# Altium schematic symbol library DARKYDEN.SCHLIB: 154 symbols (part 3 of 7)
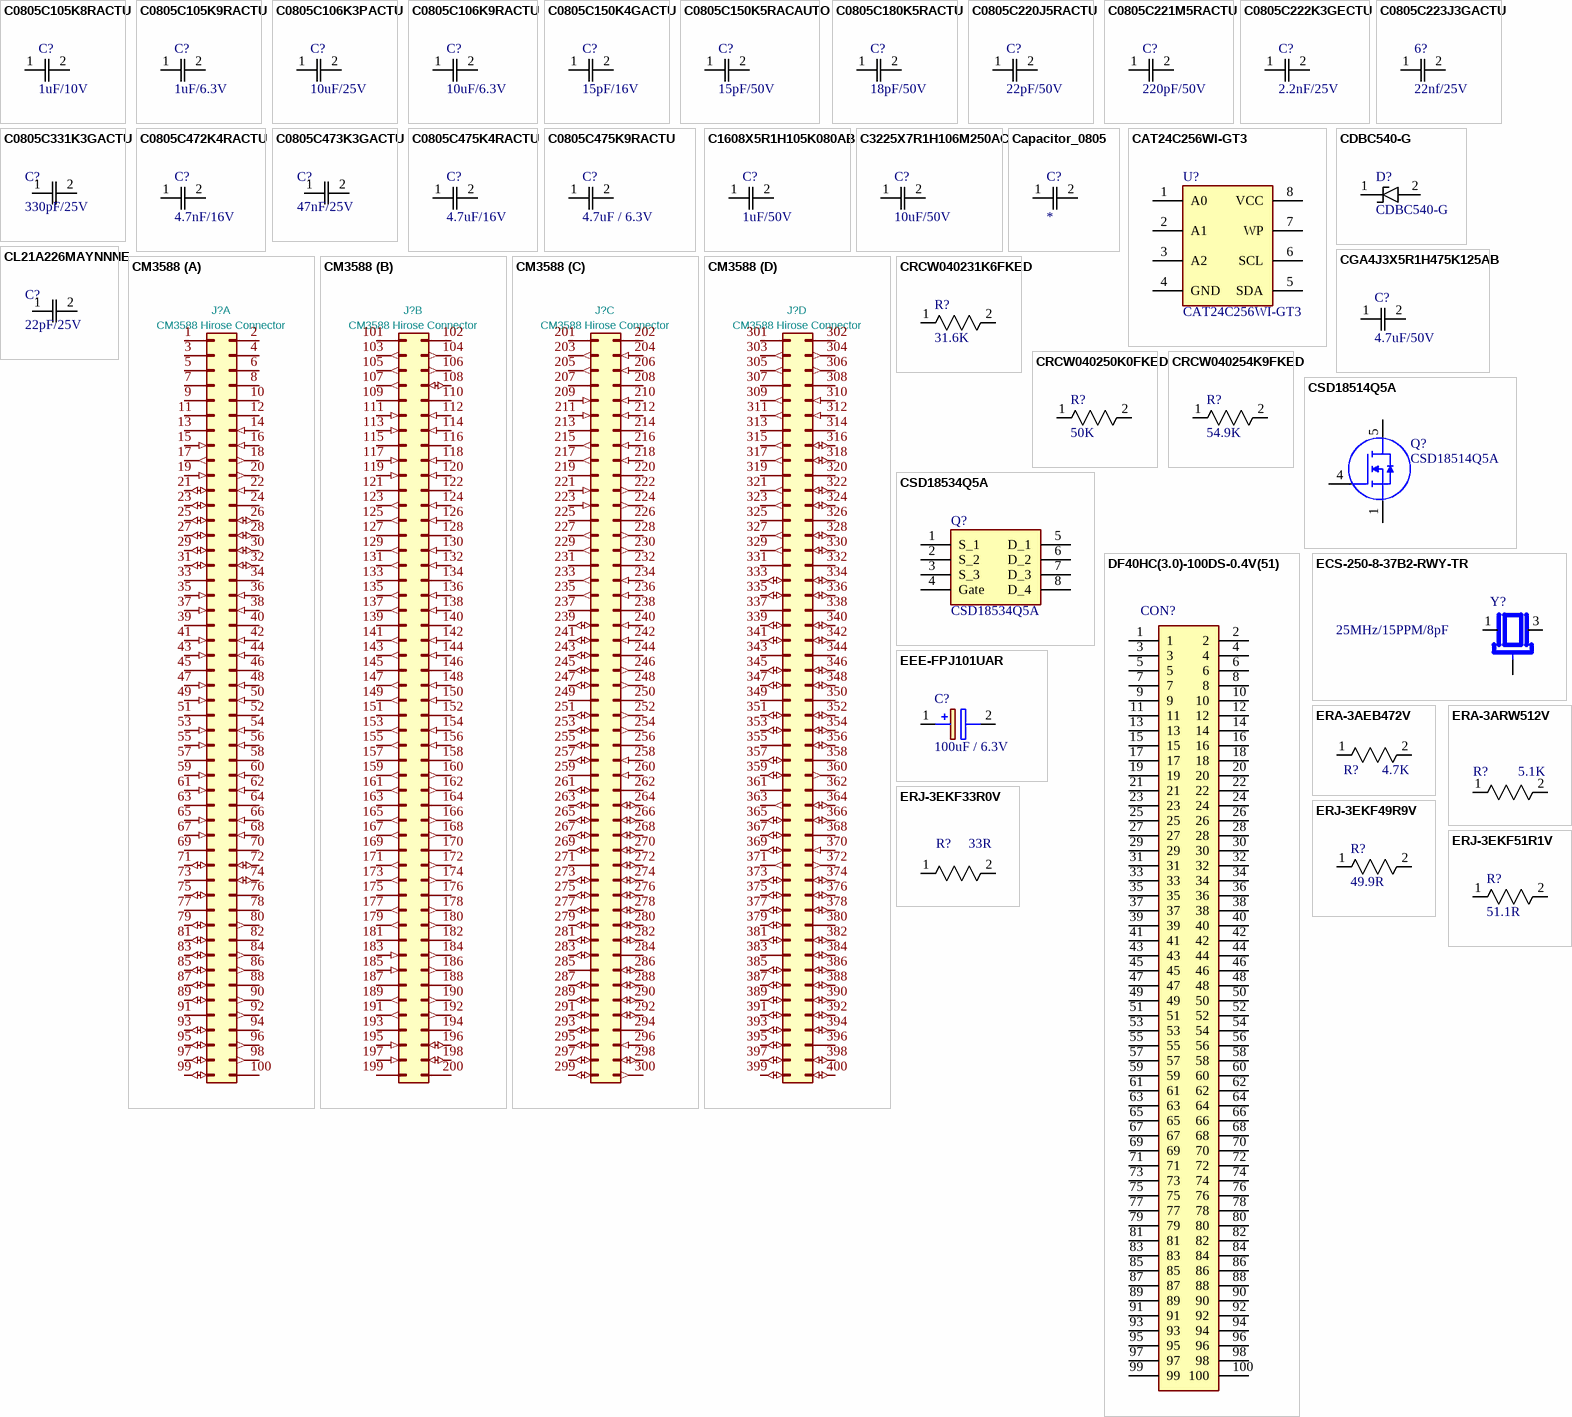
[diagram p6: symbols C0805C105K8RACTU to ERJ-3EKF51R1V]

## C0805C473K3GACTU
designator C?, comment 47nF/25V
47nF/25V C0G 10% Pad SMD 0805 125C Extreme Low ESR T/R; Manufacturer_Name: KEMET; Manufacturer_Part_Number: C0805C473K3GACTU; Dielectric Material: Ceramic; Material: 4241ConductorMaterial; Value: 47nF; Voltage Rating (DC): 25V; Dissipation Factor: 0.1%; Temperature Coefficient: 30ppm/°C; Datasheet Link: https://content.kemet.com/datasheets/KEM_C1003_C0G_SMD.pdf; Height: 1.1mm; Mouser Part Number: 80-C0805C473K3G; Mouser Price/Stock: https://www.mouser.co.uk/ProductDetail/KEMET/C0805C473K3GACTU?qs=hgatC5DSIDyRnutBseD8Ww%3D%3D; Arrow Part Number: C0805C473K3GACTU; Arrow Price/Stock: https://www.arrow.com/en/products/c0805c473k3gactu/kemet-corporation; Supplier: Digikey; Supplier Part Number: 399-C0805C473K3GACTUCT-ND; Manufacturer: KEMET; Manufacturer Part Number: C0805C473K3GACTU; RoHS: Yes; Category: Ceramic Capacitors; Stock: 53635; Pricing: 1=0.73, 10=0.458, 100=0.3172, 1000=0.24413 (USD); Mounting Technology: Surface Mount; Case/Package: 0805; Case Code (Imperial): 0805; Case Code (Metric): 2012; Min Operating Temperature: -55°C; Max Operating Temperature: 125°C; Tolerance: 10%; Dielectric: C0G; Package Quantity: 2500; Voltage Rating: 25V; Packaging: Tape and Reel; Termination: SMD/SMT; Series: C0805C; Length: 0.079inch; Width: 1.2mm; Thickness: 0.055inch; Lead Free: Lead Free; RoHS Compliant: Yes; ComponentLink1URL: http://www.mouser.com/ds/2/212/KEM_C1003_C0G_SMD-1101588.pdf?src-supplier=Mouser; ComponentLink1Description: http://www.mouser.com/ds/2/212/KEM_C1003_C0G_SMD-1101588.pdf?src-supplier=Mouser; ComponentLink2URL: https://datasheet.octopart.com/C0805C473K3GACTU-KEMET-datasheet-149524387.pdf?src-supplier=Farnell; ComponentLink2Description: https://datasheet.octopart.com/C0805C473K3GACTU-KEMET-datasheet-149524387.pdf?src-supplier=Farnell; ComponentLink3URL: http://www.kemet.com/docfinder?Partnumber=C0805C473K3GACTU&src-supplier=Digikey; ComponentLink3Description: http://www.kemet.com/docfinder?Partnumber=C0805C473K3GACTU&src-supplier=Digikey; ComponentLink4URL: https://datasheet.octopart.com/C0805C473K3GACTU-KEMET-datasheet-170333844.pdf?src-supplier=Element14; ComponentLink4Description: https://datasheet.octopart.com/C0805C473K3GACTU-KEMET-datasheet-170333844.pdf?src-supplier=Element14; ComponentLink5URL: https://datasheet.octopart.com/C0805C473K3GACTU-KEMET-datasheet-170576076.pdf?src-supplier=Newark; ComponentLink5Description: https://datasheet.octopart.com/C0805C473K3GACTU-KEMET-datasheet-170576076.pdf?src-supplier=Newark
footprint C0805
pins: 1, 2

## C0805C475K4RACTU
designator C?, comment 4.7uF/16V
4.7 uF, 16 V, ± 10%, X7R, 0805 [2012 Metric]; Manufacturer_Name: KEMET; Manufacturer_Part_Number: C0805C475K4RACTU; Dielectric Material: Ceramic; Material: 4241ConductorMaterial; Value: 4.7uF; Voltage Rating: 16V; Dissipation Factor: 5%; Datasheet Link: https://content.kemet.com/datasheets/KEM_C1002_X7R_SMD.pdf; Height: 1.1mm; Mouser Part Number: 80-C0805C475K4R; Mouser Price/Stock: https://www.mouser.co.uk/ProductDetail/KEMET/C0805C475K4RACTU?qs=iP0bYSAMAFomlmlmK2IJkg%3D%3D; Arrow Part Number: C0805C475K4RACTU; Arrow Price/Stock: https://www.arrow.com/en/products/c0805c475k4ractu/kemet-corporation?region=nac; Supplier: Digikey; Supplier Part Number: 399-C0805C475K4RACTUCT-ND; Manufacturer: KEMET; Manufacturer Part Number: C0805C475K4RACTU; RoHS: Yes; Category: Ceramic Capacitors; Stock: 21230; Pricing: 1=0.23, 10=0.131, 100=0.1203, 1000=0.10305 (USD); Mounting Technology: Surface Mount; Case/Package: 0805; Case Code (Metric): 2012; Case Code (Imperial): 0805; Min Operating Temperature: -55°C; Max Operating Temperature: 125°C; Packaging: Tape and Reel; Tolerance: 10%; Package Quantity: 1; Voltage Rating (DC): 16V; Dielectric: X7R; Termination: SMD/SMT; Voltage: 16V; Series: C; Length: 2mm; Width: 0.049inch; Thickness: 0.055inch; Depth: 1.25mm; Reach SVHC Compliant: No; RoHS Compliant: Yes; ComponentLink1URL: https://datasheet.ciiva.com/28682/1851736-28682348.pdf?src-supplier=Element14; ComponentLink1Description: https://datasheet.ciiva.com/28682/1851736-28682348.pdf?src-supplier=Element14; ComponentLink2URL: https://datasheet.ciiva.com/5408/kem-c1002-x7r-smd-5408584.pdf?src-supplier=Mouser; ComponentLink2Description: https://datasheet.ciiva.com/5408/kem-c1002-x7r-smd-5408584.pdf?src-supplier=Mouser
footprint C0805
pins: 1, 2

## C0805C475K9RACTU
designator C?, comment 4.7uF / 6.3V
4.7uF 6.3V X7R 10% Pad SMD 0805 125C T/R; Manufacturer_Name: KEMET; Manufacturer_Part_Number: C0805C475K9RACTU; Dielectric Material: Ceramic; Datasheet Link: https://content.kemet.com/datasheets/KEM_C1002_X7R_SMD.pdf; Height: 1.1mm; Mouser Part Number: 80-C0805C475K9R; Mouser Price/Stock: https://www.mouser.co.uk/ProductDetail/KEMET/C0805C475K9RACTU?qs=iP0bYSAMAFr1bFRzk5G%2Fsg%3D%3D; Arrow Part Number: C0805C475K9RACTU; Arrow Price/Stock: https://www.arrow.com/en/products/c0805c475k9ractu/kemet-corporation?region=nac; Supplier: Digikey; Supplier Part Number: 399-C0805C475K9RACTUCT-ND; Manufacturer: KEMET; Manufacturer Part Number: C0805C475K9RACTU; RoHS: Yes; Category: Ceramic Capacitors; Stock: 8898; Pricing: 1=0.47, 10=0.287, 100=0.2342, 1000=0.19866 (USD); Mounting Technology: Surface Mount; Case/Package: 0805; Case Code (Metric): 2012; Case Code (Imperial): 0805; Material: Ceramic; Min Operating Temperature: -55°C; Max Operating Temperature: 125°C; Package Quantity: 1; Value: 4.7uF; Voltage Rating: 6.3V; Tolerance: 10%; Packaging: Tape and Reel; Voltage Rating (DC): 6.3V; Termination: SMD/SMT; Series: C; Length: 0.079inch; Width: 0.049inch; Thickness: 0.055inch; RoHS Compliant: Yes; ComponentLink1URL: https://datasheet.ciiva.com/5410/kem-c1002-x7r-smd-5410071.pdf?src-supplier=Mouser; ComponentLink1Description: https://datasheet.ciiva.com/5410/kem-c1002-x7r-smd-5410071.pdf?src-supplier=Mouser
footprint C0805
pins: 1, 2

## C1608X5R1H105K080AB
designator C?, comment 1uF/50V
1uF / 50 V, X5R,  Surface Mount, 0603; Manufacturer_Name: TDK; Manufacturer_Part_Number: C1608X5R1H105K080AB; Material: Ceramic; Dielectric Material: 4241ConductorMaterial; Tolerance: 10%; Voltage Rating: 50V; Datasheet Link: https://product.tdk.com/info/en/catalog/datasheets/mlcc_commercial_midvoltage_en.pdf; Height: 0.8mm; Mouser Part Number: 810-C1608X5R1H105K; Mouser Price/Stock: https://www.mouser.co.uk/ProductDetail/TDK/C1608X5R1H105K080AB?qs=NRhsANhppD%252BLmxnPDqAv3A%3D%3D; Arrow Part Number: C1608X5R1H105K080AB; Arrow Price/Stock: https://www.arrow.com/en/products/c1608x5r1h105k080ab/tdk?region=nac; Supplier: Digikey; Supplier Part Number: 445-7468-1-ND; Manufacturer: TDK; Manufacturer Part Number: C1608X5R1H105K080AB; RoHS: Yes; Category: Ceramic Capacitors; Stock: 19911; Pricing: 1=0.15, 10=0.086, 100=0.0526, 1000=0.03552 (USD); Mounting Technology: Surface Mount; Case/Package: 0603; Pins: 2; Case Code (Metric): 1608; Case Code (Imperial): 0603; Min Operating Temperature: -55°C; Max Operating Temperature: 85°C; Value: 1uF; Packaging: Tape and Reel; Package Quantity: 1; Dielectric: X5R; Voltage: 50V; Series: C; Construction: Flat; Length: 1.6mm; Width: 0.031inch; Thickness: 0.035inch; Depth: 0.8mm; Reach SVHC Compliant: No; Lead Free: Lead Free; RoHS Compliant: Yes; ComponentLink1URL: https://datasheet.ciiva.com/6291/tdkmlcccaprange-6291880.pdf?src-supplier=Digikey; ComponentLink1Description: https://datasheet.ciiva.com/6291/tdkmlcccaprange-6291880.pdf?src-supplier=Digikey; ComponentLink2URL: https://datasheet.ciiva.com/22694/1796654-22694122.pdf?src-supplier=Element14; ComponentLink2Description: https://datasheet.ciiva.com/22694/1796654-22694122.pdf?src-supplier=Element14
footprint CAPC1608X80N
pins: 1, 2

## C3225X7R1H106M250AC
designator C?, comment 10uF/50V
10 uF 50 V 1210 ±20 % Tolerance X7R SMT Multilayer Ceramic Capacitor; Manufacturer_Name: TDK; Manufacturer_Part_Number: C3225X7R1H106M250AC; Value: 10uF; Tolerance: 20%; Voltage Rating: 50V; Datasheet Link: https://product.tdk.com/info/en/catalog/datasheets/mlcc_commercial_midvoltage_en.pdf; Height: 2.3mm; Mouser Part Number: 810-C3225X7R1H106MAC; Mouser Price/Stock: https://www.mouser.co.uk/ProductDetail/TDK/C3225X7R1H106M250AC?qs=6JAMGB%252BEdkwY95l8JqNSnw%3D%3D; Arrow Part Number: C3225X7R1H106M250AC; Arrow Price/Stock: https://www.arrow.com/en/products/c3225x7r1h106m250ac/tdk?region=nac; Supplier: Digikey; Supplier Part Number: 445-14933-1-ND; Manufacturer: TDK; Manufacturer Part Number: C3225X7R1H106M250AC; RoHS: Yes; Category: Ceramic Capacitors; Stock: 7078; Pricing: 1=0.96, 10=0.612, 100=0.4336 (USD); Mounting Technology: Surface Mount; Case/Package: 1210; Case Code (Metric): 3225; Case Code (Imperial): 1210; Weight: 0.000564oz; Dielectric Material: Ceramic; Material: Ceramic; Min Operating Temperature: -55°C; Max Operating Temperature: 125°C; Package Quantity: 1000; Packaging: Tape and Reel; Dielectric: X7R; Termination: SMD/SMT; Voltage Rating (DC): 50V; Series: C; Length: 0.126inch; Width: 0.098inch; Thickness: 0.11inch; Reach SVHC Compliant: No; Lead Free: Lead Free; RoHS Compliant: Yes; ComponentLink1URL: http://www.farnell.com/datasheets/2792994.pdf?src-supplier=Farnell; ComponentLink1Description: http://www.farnell.com/datasheets/2792994.pdf?src-supplier=Farnell; ComponentLink2URL: http://www.mouser.com/ds/2/400/tdk_mlcc_commercial_general_en-542463.pdf?src-supplier=Mouser; ComponentLink2Description: http://www.mouser.com/ds/2/400/tdk_mlcc_commercial_general_en-542463.pdf?src-supplier=Mouser; ComponentLink3URL: https://product.tdk.com/info/en/documents/chara_sheet/C3225X7R1H106M250AC.pdf?src-supplier=Digikey; ComponentLink3Description: https://product.tdk.com/info/en/documents/chara_sheet/C3225X7R1H106M250AC.pdf?src-supplier=Digikey; ComponentLink4URL: http://product.tdk.com/capacitor/mlcc/en/documents/mlcc_commercial_general_en.pdf?src-supplier=Avnet; ComponentLink4Description: http://product.tdk.com/capacitor/mlcc/en/documents/mlcc_commercial_general_en.pdf?src-supplier=Avnet; ComponentLink5URL: http://www.farnell.com/datasheets/2291921.pdf?src-supplier=Newark; ComponentLink5Description: http://www.farnell.com/datasheets/2291921.pdf?src-supplier=Newark; ComponentLink6URL: https://datasheet.octopart.com/C3225X7R1H106M250AC-TDK-datasheet-14433597.pdf?src-supplier=Future+Electronics; ComponentLink6Description: https://datasheet.octopart.com/C3225X7R1H106M250AC-TDK-datasheet-14433597.pdf?src-supplier=Future+Electronics
footprint CAPC3225X230N
pins: 1, 2

## Capacitor_0805
designator C?
C0805; Mfr_Name: Yageo
footprint C0805
pins: 1, 2

## CAT24C256WI-GT3
designator U?
EEPROM Memory IC 256Kbit I2C 1 MHz 500 ns 8-SOIC; Manufacturer_Name: onsemi; Datasheet Link: https://www.onsemi.com/pub/Collateral/CAT24C256-D.PDF; Height: 1.75mm; Manufacturer_Part_Number: CAT24C256WI-GT3; Mouser Part Number: 698-CAT24C256WI-GT3; Mouser Price/Stock: https://www.mouser.co.uk/ProductDetail/onsemi/CAT24C256WI-GT3?qs=rZgeL6XvLwaEqwp5Dppodg%3D%3D; Arrow Part Number: CAT24C256WI-GT3; Arrow Price/Stock: https://www.arrow.com/en/products/cat24c256wi-gt3/on-semiconductor?utm_currency=USD&region=nac
footprint SOIC127P600X175-8N
pins: 1 A0, 2 A1, 3 A2, 4 GND, 5 SDA, 6 SCL, 7 WP, 8 VCC

## CDBC540-G
designator D?
Schottky Diode 40V 5A 2-Pin DO-214AB (SMC) CDBC540-G SMT; Manufacturer_Name: Comchip Technology; Manufacturer: Comchip; Max Surge Current: 100A; Max Reverse Leakage Current: 500uA; Datasheet Link: https://eu.mouser.com/datasheet/2/80/CDBC520-HF_Thru195340._CDBC5100-HF_RevB-1480991.pdf; Height: 2.9mm; Manufacturer_Part_Number: CDBC540-G; Mouser Part Number: 750-CDBC540-G; Mouser Price/Stock: https://www.mouser.co.uk/ProductDetail/Comchip-Technology/CDBC540-G?qs=tw%252BuQ%2FB6PO2ExpPYY64Vzw%3D%3D; Arrow Part Number: CDBC540-G; Arrow Price/Stock: https://www.arrow.com/en/products/cdbc540-g/comchip-technology?utm_currency=USD&region=nac; Supplier: Digikey; Supplier Part Number: 641-1126-1-ND; Manufacturer Part Number: CDBC540-G; RoHS: Yes; Category: Rectifier Diodes; Stock: 176247; Pricing: 1=0.67, 10=0.526, 100=0.4172, 500=0.32184, 1000=0.2911 (USD); Mounting Technology: Surface Mount; Case/Package: DO-214AB; Pins: 2; Package Quantity: 3000; Packaging: Tape and Reel; Average Rectified Current: 5A; Max Reverse Voltage (DC): 40V; Series: -; RoHS Compliant: Yes; ComponentLink1URL: https://datasheet.ciiva.com/914/cdbc520-gthru936981-cdbc5100-grevc-914747.pdf?src-supplier=Digikey; ComponentLink1Description: https://datasheet.ciiva.com/914/cdbc520-gthru936981-cdbc5100-grevc-914747.pdf?src-supplier=Digikey; ComponentLink2URL: https://datasheet.ciiva.com/914/cdbc520-gthru936981-cdbc5100-grevc-914748.pdf?src-supplier=Digikey; ComponentLink2Description: https://datasheet.ciiva.com/914/cdbc520-gthru936981-cdbc5100-grevc-914748.pdf?src-supplier=Digikey; ComponentLink3URL: https://datasheet.ciiva.com/914/cdbc520-gthru936981-cdbc5100-grevc-914749.pdf?src-supplier=Digikey; ComponentLink3Description: https://datasheet.ciiva.com/914/cdbc520-gthru936981-cdbc5100-grevc-914749.pdf?src-supplier=Digikey
footprint DIOM8059X290N
pins: 1 K, 2 A

## CGA4J3X5R1H475K125AB
designator C?, comment 4.7uF/50V
4.7uF/50V X5R 卤10% 0805 Multilayer Ceramic Capacitors MLCC - SMD/SMT ROHS; Mfr_Name: TDK; Manufacturer Part Number: CGA4J3X5R1H475K125AB; Material: 4241ConductorMaterial; Tolerance: 10%; Value: 4.7uF; Voltage Rating: 50V; Supplier: Digikey; Supplier Part Number: 445-7882-1-ND; Manufacturer: TDK; RoHS: Yes; Category: Ceramic Capacitors; Stock: 1114173; Pricing: 1=0.42, 10=0.252, 100=0.1666, 1000=0.1226 (USD); Mounting Technology: Surface Mount; Case/Package: 0805; Case Code (Metric): 2012; Case Code (Imperial): 0805; Weight: 0.000194oz; Min Operating Temperature: -55°C; Max Operating Temperature: 85°C; Packaging: Tape and Reel; Package Quantity: 2000; Voltage Rating (DC): 50V; Dielectric: X5R; Termination: SMD/SMT; Voltage: 50V; Series: CGA; Length: 2mm; Width: 1.25mm; Height: 1.25mm; Depth: 1.25mm; Ratings: AEC-Q200; Reach SVHC Compliant: No; RoHS Compliant: Yes; Lead Free: 5697LeadFree; ComponentLink1URL: https://datasheet.ciiva.com/24216/cga4j3x5r1h475k125ab-266053-24216004.pdf?src-supplier=Mouser; ComponentLink1Description: https://datasheet.ciiva.com/24216/cga4j3x5r1h475k125ab-266053-24216004.pdf?src-supplier=Mouser; ComponentLink2URL: https://datasheet.ciiva.com/7975/1807242-7975439.pdf?src-supplier=Element14; ComponentLink2Description: https://datasheet.ciiva.com/7975/1807242-7975439.pdf?src-supplier=Element14; ComponentLink3URL: https://datasheet.ciiva.com/22703/1807242-22703720.pdf?src-supplier=Element14; ComponentLink3Description: https://datasheet.ciiva.com/22703/1807242-22703720.pdf?src-supplier=Element14
footprint CAP_2012_TDK
pins: 1, 2

## CL21A226MAYNNNE
designator C?, comment 22pF/25V
22uF/25V 20% X5R 0805; Manufacturer_Name: SAMSUNG; Manufacturer_Part_Number: CL21A226MAYNNNE; Value: 22uF; Voltage Rating: 25V; Datasheet Link: http://product.samsungsem.com/mlcc/CL21A226MAYNNN.do; Height: 1.45mm; Mouser Part Number: 187-CL21A226MAYNNNE; Mouser Price/Stock: https://www.mouser.co.uk/ProductDetail/Samsung-Electro-Mechanics/CL21A226MAYNNNE?qs=xZ%2FP%252Ba9zWqY%2FVvCfXjMhqg%3D%3D; Arrow Part Number: CL21A226MAYNNNE; Arrow Price/Stock: https://www.arrow.com/en/products/cl21a226maynnne/samsung-electro-mechanics?utm_currency=USD&region=nac; Supplier: Digikey; Supplier Part Number: 1276-CL21A226MAYNNNECT-ND; Manufacturer: Samsung; Manufacturer Part Number: CL21A226MAYNNNE; RoHS: Yes; Category: Ceramic Capacitors; Stock: 687201; Pricing: 1=0.14, 10=0.083, 100=0.0544, 1000=0.04301 (USD); Case/Package: 0805; Min Operating Temperature: -55°C; Max Operating Temperature: 85°C; Dielectric: X5R; Tolerance: 20%; Voltage Rating (DC): 25V; RoHS Compliant: Yes; ComponentLink1URL: https://datasheet.octopart.com/CL21A226MAYNNNE-Samsung-Electro-Mechanics-datasheet-149154243.pdf?src-supplier=Future+Electronics; ComponentLink1Description: https://datasheet.octopart.com/CL21A226MAYNNNE-Samsung-Electro-Mechanics-datasheet-149154243.pdf?src-supplier=Future+Electronics
footprint c0805
pins: 1, 2

## CM3588
designator J?, comment CM3588 Hirose Connector
LCSC: C597931; Footprint: Library:CM3588; Value: CM3588 Hirose Connector
footprint CM3588
part A pins: 1 VDD_DCIN (power) "Power input (+5~+20V)", 2 VDD_DCIN (power) "Power input (+5~+20V)", 3 VDD_DCIN (power) "Power input (+5~+20V)", 4 VDD_DCIN (power) "Power input (+5~+20V)", 5 VDD_DCIN (power) "Power input (+5~+20V)", 6 VDD_DCIN (power) "Power input (+5~+20V)", 7 VDD_DCIN (power) "Power input (+5~+20V)", 8 VDD_DCIN (power) "Power input (+5~+20V)", 9 VDD_DCIN (power) "Power input (+5~+20V)", 10 VDD_DCIN (power) "Power input (+5~+20V)", 11 GND "Ground(0V)", 12 GND "Ground(0V)", 13 GND "Ground(0V)", 14 SARADC_VIN6_HW_ID2 (in) "SARADC VIN6, for Carrier Board ID Only", 15 BOOT_SARADC_IN0 (in) "Boot mode configuration. Pull low to  enter USB Maskrom Mode", 16 RESET_L (in) "RESET input to RK3588 and PMIC, low active, 1.8V signal", 17 PWRON_L (out) "Power Key Signal, Connect to  PowerKey, low active, 4V signal", 18 VDC_MODE (out) "Power-ON mode selection. Keep float: power up immediately after  VDD_DCIN is powered. Short to GND: power up after PowerKey is pressed", 19 PMIC_EXT_EN_OUT (in) "Control the power of carrier board,  high active, 4V signal", 20 UART2_TX_M0_DEBUG (out) "Debug UART TX, 3.3V signal", 21 GPIO2_C0 (io) "GPIO, 1.8V signal", 22 UART2_RX_M0_DEBUG (in) "Debug UART RX, 3.3V signal", 23 GPIO2_C1/MIPI_CAM2_RESET_L (io) "GPIO, 1.8V signal", 24 GND "Ground(0V)", 25 GPIO2_C2/MIPI_CAM2_PDN_L (io) "GPIO, 1.8V signal", 26 GPIO4_C2 (io) "GPIO, 1.8V signal", 27 GPIO2_C3 (io) "GPIO, 1.8V signal", 28 GPIO4_C3 (io) "GPIO, 1.8V signal", 29 GPIO2_C4 (io) "GPIO, 1.8V signal", 30 GPIO4_C4 (io) "GPIO, 1.8V signal", 31 GPIO4_C6 (io) "GPIO, 1.8V signal", 32 GPIO4_C5 (io) "GPIO, 1.8V signal", 33 GND (power) "Ground(0V)", 34 GND (power) "Ground(0V)", 35 MIPI_CSI1_RX_CLK1P (in) "MIPI DPHY CSI port1 clock1 positive  input", 36 MIPI_CSI0_RX_CLK1P (in) "MIPI DPHY CSI port0 clock1 positive input", 37 MIPI_CSI1_RX_CLK1N (in) "MIPI DPHY CSI port1 clock1 negative  input", 38 MIPI_CSI0_RX_CLK1N (in) "MIPI DPHY CSI port0 clock1 negative input", 39 GND "Ground(0V)", 40 GND "Ground(0V)", 41 MIPI_CSI1_RX_D3P (in) "MIPI DPHY CSI port1 D3 positive input", 42 MIPI_CSI0_RX_D3P (in) "MIPI DPHY CSI port0 D3 positive input", 43 MIPI_CSI1_RX_D3N (in) "MIPI DPHY CSI port1 D3 negative  input", 44 MIPI_CSI0_RX_D3N (in) "MIPI DPHY CSI port0 D3 negative input", 45 GND "Ground(0V)", 46 GND "Ground(0V)", 47 MIPI_CSI1_RX_D2P (in) "MIPI DPHY CSI port1 D2 positive input", 48 MIPI_CSI0_RX_D2P (in) "MIPI DPHY CSI port0 D2 positive input", 49 MIPI_CSI1_RX_D2N (in) "MIPI DPHY CSI port1 D2 negative  input", 50 MIPI_CSI0_RX_D2N (in) "MIPI DPHY CSI port0 D2 negative input", 51 GND "Ground(0V)", 52 GND "Ground(0V)", 53 MIPI_CSI1_RX_CLK0P (in) "MIPI DPHY CSI port1 clock0 positive  input", 54 MIPI_CSI0_RX_CLK0P (in) "MIPI DPHY CSI port0 clock0 positive input", 55 MIPI_CSI1_RX_CLK0N (in) "MIPI DPHY CSI port1 clock0 negative  input", 56 MIPI_CSI0_RX_CLK0N (in) "MIPI DPHY CSI port0 clock0 negative input", 57 GND "Ground(0V)", 58 GND "Ground(0V)", 59 MIPI_CSI1_RX_D1P (in) "MIPI DPHY CSI port1 D1 positive input", 60 MIPI_CSI0_RX_D1P (in) "MIPI DPHY CSI port0 D1 positive input", 61 MIPI_CSI1_RX_D1N (in) "MIPI DPHY CSI port1 D1 negative  input", 62 MIPI_CSI0_RX_D1N (in) "MIPI DPHY CSI port0 D1 negative input", 63 GND "Ground(0V)", 64 GND "Ground(0V)", 65 MIPI_CSI1_RX_D0P (in) "MIPI DPHY CSI port1 D0 positive input", 66 MIPI_CSI0_RX_D0P (in) "MIPI DPHY CSI port0 D0 positive input", 67 MIPI_CSI1_RX_D0N (in) "MIPI DPHY CSI port1 D0 negative  input", 68 MIPI_CSI0_RX_D0N (in) "MIPI DPHY CSI port0 D0 positive input  69", 69 GND "Ground(0V)", 70 GND "Ground(0V)", 71 GPIO1_B6 (io) "GPIO, 3.3V signal", 72 LED3_25GLAN_25GLED (io) "2.5Gbps ethernet LED signal, blinking when 2.5Gbps link is active, low  active", 73 GND "Ground(0V)", 74 LED2_25GLAN_1GLED (io) "2.5Gbps ethernet LED signal, blinking when 1Gbps link is active, low active", 75 GPIO1_B7 (io) "GPIO, 3.3V signal 76 GND", 76 GND "Ground(0V)", 77 GND "Ground(0V)", 78 P25G_MDIP0 "2.5Gbps ethernet MDI0 positive", 79 GPIO2_A6 (io) "GPIO, 1.8V signal", 80 P25G_MDIN0 (out) "2.5Gbps ethernet MDI0 negative", 81 GPIO2_A7 (io) "GPIO, 1.8V signal", 82 GND "Ground(0V)", 83 GPIO2_B0 (io) "GPIO, 1.8V signal", 84 P25G_MDIP1 (out) "2.5Gbps ethernet MDI1 positive", 85 GPIO2_B1 GPIO, (io) "GPIO, 1.8V signal", 86 P25G_MDIN1 (out) "2.5Gbps ethernet MDI1 negative", 87 GPIO2_B2 (io) "GPIO, 1.8V signal", 88 GND "Ground(0V)", 89 GPIO2_B3 (io) "GPIO, 1.8V signal", 90 P25G_MDIP2 (out) "2.5Gbps ethernet MDI2 positive", 91 GND "Ground(0V)", 92 P25G_MDIN2 (out) "2.5Gbps ethernet MDI2 negative", 93 GPIO2_B4 (io) "GPIO, 1.8V signal", 94 GND "Ground(0V)", 95 GPIO2_B5 (io) "GPIO, 1.8V signal", 96 P25G_MDIP3 (out) "2.5Gbps ethernet MDI3 positive", 97 GPIO2_B6 (io) "GPIO, 1.8V signal", 98 P25G_MDIN3 (out) "2.5Gbps ethernet MDI3 negative", 99 GPIO2_B7 (io) "GPIO, 1.8V signal", 100 GND "Ground(0V)"
part B pins: 101 RECOVERY "Connected to SARADC_IN1 which is used by bootloader, pull low to enter  Recovery/Loader mode, internally pulled up to 1.8V", 102 GND_AUDUO "Audio ground, Audio  signals(including HPR, HPL and  MIC_IN) return path", 103 HPR (out) "Headphone output Right channel", 104 HPL (out) "Headphone output Left channel", 105 I2C7_SDA_M0 (out) "I2C7 data, 1.8V signal, internally pulled up to 1.8V and also connected to  audio codec(ALC5616)", 106 MIC_IN (out) "Single-end mcirophone input,  internally pulled up to Bais power", 107 I2C7_SCL_M0 (out) "I2C7 clock, 1.8V signal, internally pulled up to 1.8V and also connected to audio codec(ALC5616)", 108 GPIO1_C4/HP_DET_L (io) "GPIO used as Headphone insert  detection input, internally pulled up  to 1.8V, low active", 109 GND "Ground(0V)", 110 GND "Ground(0V)", 111 MIPI_DPHY0_RX_D2P (in) "MIPI D/CPHY CSI port0 D2 positive input", 112 MIPI_DPHY0_RX_D3P (in) "MIPI D/CPHY CSI port0 D3 positive  input", 113 MIPI_DPHY0_RX_D2N (in) "MIPI D/CPHY CSI port0 D2 negative input", 114 MIPI_DPHY0_RX_D3N (in) "MIPI D/CPHY CSI port0 D3 negative  input", 115 GND "Ground(0V)", 116 GND "Ground(0V)", 117 MIPI_DPHY0_RX_D1P (in) "MIPI D/CPHY CSI port0 D1 positive input", 118 MIPI_DPHY0_RX_CLKP (in) "MIPI D/CPHY CSI port0 clock positive  input", 119 MIPI_DPHY0_RX_D1N (in) "MIPI D/CPHY CSI port0 D1 negative input", 120 MIPI_DPHY0_RX_CLKN (in) "MIPI D/CPHY CSI port0 clock  negative input", 121 GND "Ground(0V)", 122 GND "Ground(0V)", 123 MIPI_DPHY0_TX_D3P (out) "MIPI D/CPHY DSI port0 D3 positive output", 124 MIPI_DPHY0_RX_D0P (in) "MIPI D/CPHY CSI port0 D0 positive  input", 125 MIPI_DPHY0_TX_D3N (out) "MIPI D/CPHY DSI port0 D3 negative output", 126 MIPI_DPHY0_RX_D0N (in) "MIPI D/CPHY CSI port0 D0 negative  input", 127 GND "Ground(0V)", 128 GND "Ground(0V)", 129 MIPI_DPHY0_TX_D2P (out) "MIPI D/CPHY DSI port0 D2 positive output", 130 MIPI_DPHY1_RX_D3P (in) "MIPI D/CPHY CSI port1 D3 positive  input", 131 MIPI_DPHY0_TX_D2N (out) "MIPI D/CPHY DSI port0 D2 negative output", 132 MIPI_DPHY1_RX_D3N (in) "MIPI D/CPHY CSI port1 D3 negative  input", 133 GND "Ground(0V)", 134 GND "Ground(0V)", 135 MIPI_DPHY0_TX_CLKP (out) "MIPI D/CPHY DSI port0 clock positive output", 136 MIPI_DPHY1_RX_D2P (in) "MIPI D/CPHY CSI port1 D2 positive  input", 137 MIPI_DPHY0_TX_CLKN (out) "MIPI D/CPHY DSI port0 clock negative output", 138 MIPI_DPHY1_RX_D2N (in) "MIPI D/CPHY CSI port1 D2 negative  input", 139 GND "Ground(0V)", 140 GND "Ground(0V)", 141 MIPI_DPHY0_TX_D1P (out) "MIPI D/CPHY DSI port0 D1 positive output", 142 MIPI_DPHY1_RX_CLKP (in) "MIPI D/CPHY CSI port1 clock positive  input", 143 MIPI_DPHY0_TX_D1N (out) "MIPI D/CPHY DSI port0 D1 negative output", 144 MIPI_DPHY1_RX_CLKN (in) "MIPI D/CPHY CSI port1 clock  negative input", 145 GND "Ground(0V)", 146 GND "Ground(0V)", 147 MIPI_DPHY0_TX_D0P (out) "MIPI D/CPHY DSI port0 D0 positive output", 148 MIPI_DPHY1_RX_D1P (in) "MIPI D/CPHY CSI port1 D1 positive  input", 149 MIPI_DPHY0_TX_D0N (out) "MIPI D/CPHY DSI port0 D0 negative output", 150 MIPI_DPHY1_RX_D1N (in) "MIPI D/CPHY CSI port1 D1 negative  input", 151 GND "Ground(0V)", 152 GND "Ground(0V)", 153 TYPEC0_SSTX2P (out) "USB 3.0 OTG TX2 positive/DP1.4 Alt of TYPEC0, AC coupling capacitor  included on CM3588", 154 MIPI_DPHY1_RX_D0P (in) "MIPI D/CPHY CSI port1 D0 positive  input", 155 TYPEC0_SSTX2N (out) "USB 3.0 OTG TX2 negative/DP1.4 Alt of TYPEC0, AC coupling capacitor  included on CM3588", 156 MIPI_DPHY1_RX_D0N (in) "MIPI D/CPHY CSI port1 D0 negative  input", 157 GND "Ground(0V)", 158 GND "Ground(0V)", 159 TYPEC0_SSRX2P (out) "USB 3.0 OTG RX2 positive/DP1.4 Alt of TYPEC0, external AC coupling  capacitor required", 160 MIPI_DPHY1_TX_D3P (out) "MIPI D/CPHY DSI port1 D3 positive  output", 161 TYPEC0_SSRX2N (out) "USB 3.0 OTG RX2 negative/DP1.4 Alt of TYPEC0, external AC coupling  capacitor required", 162 MIPI_DPHY1_TX_D3N (out) "MIPI D/CPHY DSI port1 D3 negative  output", 163 GND "Ground(0V)", 164 GND "Ground(0V)", 165 TYPEC0_SSTX1P (out) "USB 3.0 OTG TX1 positive/DP1.4 Alt of TYPEC0, AC coupling capacitor  included on CM3588", 166 MIPI_DPHY1_TX_D2P (out) "MIPI D/CPHY DSI port1 D2 positive  output", 167 TYPEC0_SSTX1N (out) "USB 3.0 OTG TX1 negative/DP1.4 Alt of TYPEC0, AC coupling capacitor  included on CM3588", 168 MIPI_DPHY1_TX_D2N (out) "MIPI D/CPHY DSI port1 D2 negative  output", 169 GND "Ground(0V)", 170 GND "Ground(0V)", 171 TYPEC0_SSRX1P (out) "USB 3.0 OTG RX1 positive/DP1.4 Alt of TYPEC0, external AC coupling  capacitor required", 172 MIPI_DPHY1_TX_CLKP (out) "MIPI D/CPHY DSI port1 clock positive  output", 173 TYPEC0_SSRX1N (out) "USB 3.0 OTG RX1 negative/DP1.4 Alt of TYPEC0, external AC coupling  capacitor required", 174 MIPI_DPHY1_TX_CLKN (out) "MIPI D/CPHY DSI port1 clock  negative output", 175 GND "Ground(0V)", 176 GND "Ground(0V)", 177 TYPEC1_SSTX2P (out) "USB 3.0 OTG TX2 positive/DP1.4 Alt of TYPEC1, AC coupling capacitor  included on CM3588", 178 MIPI_DPHY1_TX_D1P (out) "MIPI D/CPHY DSI port1 D1 positive  output", 179 TYPEC1_SSTX2N (out) "USB 3.0 OTG TX2 negative/DP1.4 Alt of TYPEC1, AC coupling capacitor  included on CM3588", 180 MIPI_DPHY1_TX_D1N (out) "MIPI D/CPHY DSI port1 D1 negative  output", 181 GND "Ground(0V)", 182 GND "Ground(0V)", 183 TYPEC1_SSRX2P (in) "USB 3.0 OTG RX2 positive/DP1.4 Alt of TYPEC1, external AC coupling  capacitor required", 184 MIPI_DPHY1_TX_D0P (out) "MIPI D/CPHY DSI port1 D0 positive  output", 185 TYPEC1_SSRX2N (in) "USB 3.0 OTG RX2 negative/DP1.4 Alt of TYPEC1, external AC coupling  capacitor required", 186 MIPI_DPHY1_TX_D0N (out) "MIPI D/CPHY DSI port1 D0 negative  output", 187 GND "Ground(0V)", 188 GND "Ground(0V)", 189 TYPEC1_SSTX1P (out) "USB 3.0 OTG TX1 positive/DP1.4 Alt of TYPEC1, AC coupling capacitor  included on CM3588", 190 TYPEC0_OTG_DP (out) "USB 2.0 OTG DP of TYPEC0", 191 TYPEC1_SSTX1N (out) "USB 3.0 OTG TX1 negative/DP1.4 Alt of TYPEC1, AC coupling capacitor  included on CM3588", 192 TYPEC0_OTG_DM (out) "USB 2.0 OTG DM of TYPEC0", 193 GND "Ground(0V)", 194 GND "Ground(0V)", 195 TYPEC1_SSRX1P (in) "USB 3.0 OTG RX1 positive/DP1.4 Alt of TYPEC1, external AC coupling  capacitor required", 196 TYPEC1_OTG_DP (io) "USB 2.0 OTG DP of TYPEC1", 197 TYPEC1_SSRX1N (in) "USB 3.0 OTG RX1 negative/DP1.4 Alt of TYPEC1, external AC coupling  capacitor required", 198 TYPEC1_OTG_DM (io) "USB 2.0 OTG DM of TYPEC1", 199 GND "Ground(0V)", 200 GND "Ground(0V)"
part C pins: 201 GND "Ground(0V)", 202 GND "Ground(0V)", 203 PCIE20_1_TXP/SATA30_1_TXP (out) "PCIe2.0/SATA3.0 Combo PHY1 output positive, AC  coupling capacitor included on CM3588", 204 PCIE30_PORT0_RX0P (in) "PCIe 3.0 PHY0 Lane0 input  positive, external AC  coupling capacitor required", 205 PCIE20_1_TXN/SATA30_1_TXN (out) "PCIe2.0/SATA3.0 Combo PHY1 output negative, AC  coupling capacitor included on CM3588", 206 PCIE30_PORT0_RX0N (in) "PCIe 3.0 PHY0 Lane0 input  negative, external AC  coupling capacitor required", 207 GND "Ground(0V)", 208 GND "Ground(0V)", 209 PCIE20_1_RXP/SATA30_1_RXP (in) "PCIe2.0/SATA3.0 Combo PHY1 input positive, external  AC coupling capacitor required", 210 PCIE30_PORT0_RX1P (in) "PCIe 3.0 PHY0 Lane1 input  positive, external AC  coupling capacitor required", 211 PCPIE20_1_RXN/SATA30_1_RXN (in) "PCIe2.0/SATA3.0 Combo PHY1 input negative,  external AC coupling capacitor required", 212 PCIE30_PORT0_RX1N (in) "PCIe 3.0 PHY0 Lane1 input  negative, external AC  coupling capacitor required", 213 GND "Ground(0V)", 214 GND "Ground(0V)", 215 PCIE20_1_REFCLKP (out) "PCIe2.0/SATA3.0 Combo PHY1 PCIe 2.0 refclk output  positive", 216 PCIE30_PORT0_REFCLKP_IN (in) "PCIe 3.0 PHY0 refclk input  positive", 217 PCIE20_1_REFCLKN (out) "PCIe2.0/SATA3.0 Combo PHY1 PCIe 2.0 refclk output  negative", 218 PCIE30_PORT0_REFCLKN_IN (in) "PCIe 3.0 PHY0 refclk input  negative", 219 GND "Ground(0V)", 220 GND "Ground(0V)", 221 PCIE20_2_RXP/SATA30_2_RXP/USB30_2_SSRXP (in) "PCIe2.0/SATA3.0/USB3.0 HOST Combo PHY2 input  positive, external AC coupling capacitor required", 222 PCIE30_PORT0_TX0P (out) "PCIe 3.0 PHY0 Lane0 output  positive, AC coupling  capacitor included on  CM3588", 223 PCIE20_2_RXN/SATA30_2_RXN/USB30_2_SSRXN (in) "PCIe2.0/SATA3.0/USB3.0 HOST Combo PHY2 input  negative, external AC coupling capacitor required", 224 PCIE30_PORT0_TX0N (out) "PCIe 3.0 PHY0 Lane0 output  negative, AC coupling  capacitor included on  CM3588", 225 GND "Ground(0V)", 226 GND "Ground(0V)", 227 PCIE20_2_REFCLKP (out) "PCIe2.0/SATA3.0/USB3.0 HOST Combo PHY2 PCIe 2.0  refclk output positive", 228 PCIE30_PORT0_TX1P (out) "PCIe 3.0 PHY0 Lane1 output  positive, AC coupling  capacitor included on  CM3588", 229 PCIE20_2_REFCLKN (out) "PCIe2.0/SATA3.0/USB3.0 HOST Combo PHY2 PCIe 2.0  refclk output negative", 230 PCIE30_PORT0_TX1N (out) "PCIe 3.0 PHY0 Lane1 output  negative, AC coupling  capacitor included on  CM3588", 231 GND "Ground(0V)", 232 GND "Ground(0V)", 233 PCIE20_2_TXP/SATA30_2_TXP/USB30_2_SSTXP (out) "PCIe2.0/SATA3.0/USB3.0 HOST Combo PHY2 output  positive, AC coupling capacitor included on CM3588", 234 PCIE30_PORT1_RX2P (in) "PCIe 3.0 PHY1 Lane0 input  positive, external AC  coupling capacitor required", 235 PCIE20_2_TXN/SATA30_2_TXN/USB30_2_SSTXN (out) "PCIe2.0/SATA3.0/USB3.0 HOST Combo PHY2 output  negative, AC coupling capacitor included on CM3588", 236 PCIE30_PORT1_RX2N (in) "PCIe 3.0 PHY1 Lane0 input  negative, external AC  coupling capacitor required", 237 GND "Ground(0V)", 238 GND "Ground(0V)", 239 GPIO1_D2 (io) "GPIO, 1.8V signal", 240 PCIE30_PORT1_RX3P (in) "PCIe 3.0 PHY1 Lane1 input  positive, external AC  coupling capacitor required", 241 GPIO1_D3 (io) "GPIO, 1.8V signal", 242 PCIE30_PORT1_RX3N (in) "PCIe 3.0 PHY1 Lane1 input  negative, external AC  coupling capacitor required", 243 GPIO1_C1 (io) "GPIO, 1.8V signal", 244 GND "Ground(0V)", 245 GPIO1_C0 (io) "GPIO, 1.8V signal", 246 PCIE30_PORT1_TX2P (out) "PCIe 3.0 PHY1 Lane0 output  positive, AC coupling  capacitor included on", 247 GPIO0_B2 (io) "GPIO, 1.8V signal", 248 PCIE30_PORT1_TX2N (out) "PCIe 3.0 PHY1 Lane0 output  negative, AC coupling  capacitor included on  CM3588", 249 GND "Ground(0V)", 250 GND "Ground(0V)", 251 GPIO4_A0 (io) "GPIO, 3.3V signal", 252 PCIE30_PORT1_TX3P (out) "PCIe 3.0 PHY1 Lane1 output  positive, AC coupling  capacitor included on  CM3588", 253 GPIO4_A1 (io) "GPIO, 3.3V signal", 254 PCIE30_PORT1_TX3N (out) "PCIe 3.0 PHY1 Lane1 output  negative, AC coupling  capacitor included on  CM3588", 255 GPIO4_A2 (io) "GPIO, 3.3V signal", 256 GND "Ground(0V)", 257 GPIO4_A3 (io) "GPIO, 3.3V signal", 258 PCIE30_PORT1_REFCLKP_IN (in) "PCIe 3.0 PHY1 refclk input  positive", 259 GND "Ground(0V)", 260 PCIE30_PORT1_REFCLKN_IN (in) "PCIe 3.0 PHY1 refclk input  negative", 261 GPIO4_B0 (io) "GPIO, 3.3V signal", 262 GND "Ground(0V)", 263 GPIO4_B3 (io) "GPIO, 3.3V signal", 264 GPIO0_D3 (io) "GPIO, 3.3V signal", 265 GPIO4_B4 (io) "GPIO, 3.3V signal", 266 GPIO0_D4 (io) "GPIO, 3.3V signal", 267 GPIO4_B5 (io) "GPIO, 3.3V signal", 268 GPIO0_D5 (io) "GPIO, 3.3V signal", 269 GPIO4_B6 (io) "GPIO, 3.3V signal", 270 GPIO0_C4 (io) "GPIO, 3.3V signal", 271 GND "Ground(0V)", 272 GPIO0_C5 (io) "GPIO, 3.3V signal", 273 GPIO1_A0 (io) "GPIO, 3.3V signal", 274 GPIO0_C6 (io) "GPIO, 3.3V signal", 275 GPIO1_A1 (io) "GPIO, 3.3V signal", 276 GPIO1_B0 (io) "GPIO, 3.3V signal", 277 GPIO1_A2 (io) "GPIO, 3.3V signal", 278 GPIO1_B1 (io) "GPIO, 3.3V signal", 279 GPIO1_A3 (io) "GPIO, 3.3V signal", 280 GPIO1_B2 (io) "GPIO, 3.3V signal", 281 GPIO1_A4 (io) "GPIO, 3.3V signal", 282 GPIO1_B3 (io) "GPIO, 3.3V signal", 283 GPIO1_A7 (io) "GPIO, 3.3V signal", 284 GND "Ground(0V)", 285 GND "Ground(0V)", 286 GPIO1_D6 (io) "GPIO, 3.3V signal", 287 GPIO3_C0 (io) "GPIO, 3.3V signal", 288 GPIO1_D7 (io) "GPIO, 3.3V signal", 289 GPIO3_C1 (io) "GPIO, 3.3V signal", 290 GPIO1_B4 (io) "GPIO, 3.3V signal", 291 GPIO3_C2 (io) "GPIO, 3.3V signal", 292 GPIO1_B5 (io) "GPIO, 3.3V signal", 293 GPIO3_C3 (io) "GPIO, 3.3V signal", 294 GND "Ground(0V)", 295 HDMITX0_HPDIN_M0 (io) "HDMI TX0 hot plug detect input, high active, 3.3V  signal", 296 I2C6_SCL_M0 (in) "I2C6 clock, 3.3V signal,  internally pulled up to 3.3V  and also connected to RTC  IC(HYM8563TS)", 297 HDMITX1_HPDIN_M0 (io) "HDMI TX1 hot plug detect input, high active, 3.3V  signal", 298 I2C6_SDA_M0 (io) "I2C6 data, 3.3V signal,  internally pulled up to 3.3V  and also connected to RTC  IC(HYM8563TS)", 299 GPIO1_D5/HDMIIRX_DET_L (io) "HDMI RX hot plug detect input, low active, 1.8V  signal", 300 VBAT_RTC (out) "RTC IC(HYM8563TS) backup  battery input, typically a 3V  coin cell"
part D pins: 301 GND "Ground(0V)", 302 GND "Ground(0V)", 303 HDMI1_TX2P_PORT (out) "HDMI2.1/eDP TX Port1 D2P, AC coupling capacitor included on  CM3588", 304 TYPEC0_SBU1_OUT (out) "USB 3.0 OTG/DP1.4 Alt of TYPEC0  SBU1/AUXP , AC coupling capacitor  included on CM3588, connect directly to  type-c connector", 305 HDMI1_TX2N_PORT (out) "HDMI2.1/eDP TX Port1 D2N, AC coupling capacitor included on  CM3588", 306 TYPEC0_SBU2_OUT (out) "USB 3.0 OTG/DP1.4 Alt of TYPEC0  SBU2/AUXN , AC coupling capacitor  included on CM3588, connect directly to  type-c connector", 307 GND "Ground(0V)", 308 GND "Ground(0V)", 309 HDMI1_TX1P_PORT (out) "HDMI2.1/eDP TX Port1 D1P, AC coupling capacitor included on  CM3588", 310 TYPEC1_SBU1 (in) "USB 3.0 OTG/DP1.4 Alt of TYPEC1  SBU1/AUXP , AC coupling capacitor  included on CM3588", 311 HDMI1_TX1N_PORT (out) "HDMI2.1/eDP TX Port1 D1N, AC coupling capacitor included on  CM3588", 312 TYPEC1_SBU2 (in) "USB 3.0 OTG/DP1.4 Alt of TYPEC1  SBU2/AUXN , AC coupling capacitor  included on CM3588", 313 GND "Ground(0V)", 314 GND "Ground(0V)", 315 HDMI1_TX0P_PORT (out) "HDMI2.1/eDP TX Port1 D0P, AC coupling capacitor included on  CM3588", 316 USB20_HOST1_DP (io) "USB 2.0 HOST1 DP", 317 HDMI1_TX0N_PORT (out) "HDMI2.1/eDP TX Port1 D0N, AC coupling capacitor included on  CM3588", 318 USB20_HOST1_DM (io) "USB 2.0 HOST1 DM", 319 GND "Ground(0V)", 320 GND "Ground(0V)", 321 HDMI1_TX3P_PORT (out) "HDMI2.1/eDP TX Port1 D3P, AC coupling capacitor included on  CM3588", 322 USB20_HOST0_DP (io) "USB 2.0 HOST0 DP", 323 HDMI1_TX3N_PORT (out) "HDMI2.1/eDP TX Port1 D3N, AC coupling capacitor included on  CM3588", 324 USB20_HOST0_DM (io) "USB 2.0 HOST0 DM", 325 GND "Ground(0V)", 326 GND "Ground(0V)", 327 HDMI1_TX_SBDP (out) "HDMI2.1/eDP TX Port1 SBDP/AUXP, AC coupling capacitor included  on CM3588", 328 HDMI_RX_D2P_PORT (io) "HDMI RX D2P, 2.2R resistor included on  CM3588", 329 HDMI1_TX_SBDN (out) "HDMI2.1/eDP TX Port1 SBDN/AUXN, AC coupling capacitor included  on CM3588", 330 HDMI_RX_D2N_PORT (io) "HDMI RX D2N, 2.2R resistor included on  CM3588", 331 GND "Ground(0V)", 332 GND "Ground(0V)", 333 HDMI0_TX2P_PORT (io) "HDMI2.1/eDP TX Port0 D2P, AC coupling capacitor included on  CM3588", 334 HDMI_RX_D1P_PORT (io) "HDMI RX D1P, 2.2R resistor included on  CM3588", 335 HDMI0_TX2N_PORT (io) "HDMI2.1/eDP TX Port0 D2N, AC coupling capacitor included on  CM3588", 336 HDMI_RX_D1N_PORT (io) "HDMI RX D1N, 2.2R resistor included on  CM3588", 337 GND "Ground(0V)", 338 GND "Ground(0V)", 339 HDMI0_TX1P_PORT (io) "HDMI2.1/eDP TX Port0 D1P, AC coupling capacitor included on  CM3588", 340 HDMI_RX_D0P_PORT (io) "HDMI RX D0P, 2.2R resistor included on  CM3588", 341 HDMI0_TX1N_PORT (io) "HDMI2.1/eDP TX Port0 D1N, AC coupling capacitor included on  CM3588", 342 HDMI_RX_D0N_PORT (io) "HDMI RX D0N, 2.2R resistor included on  CM3588", 343 GND "Ground(0V)", 344 GND "Ground(0V)", 345 HDMI0_TX0P_PORT (io) "HDMI2.1/eDP TX Port0 D0P, AC coupling capacitor included on  CM3588", 346 HDMI_RX_CLKP_PORT (io) "HDMI RX CLKP, 2.2R resistor included on  CM3588", 347 HDMI0_TX0N_PORT (io) "HDMI2.1/eDP TX Port0 D0N, AC coupling capacitor included on  CM3588", 348 HDMI_RX_CLKN_PORT (io) "HDMI RX CLKN, 2.2R resistor included on  CM3588", 349 GND "Ground(0V)", 350 GND "Ground(0V)", 351 HDMI0_TX3P_PORT (io) "HDMI2.1/eDP TX Port0 D3P, AC coupling capacitor included on  CM3588", 352 SDMMC0_D2 (io) "SDMMC0, SD card D2, connect directly to  card slot pin", 353 HDMI0_TX3N_PORT (io) "HDMI2.1/eDP TX Port0 D3N, AC coupling capacitor included on  CM3588", 354 SDMMC0_D3 (io) "SDMMC0, SD card D3, connect directly to  card slot pin", 355 GND "Ground(0V)", 356 SDMMC0_CMD (io) "SDMMC0, SD card CMD, connect directly  to card slot pin", 357 HDMI0_TX_SBDP (io) "HDMI2.1/eDP TX Port0 SBDP/AUXP, AC coupling capacitor included  on CM3588", 358 VCC3V3_SD_S0 (power) "3.3V power out for SDMMC0 SD card,  300mA Max, connect directly to card slot  pin", 359 HDMI0_TX_SBDN (io) "HDMI2.1/eDP TX Port0 SBDN/AUXN, AC coupling capacitor included  on CM3588", 360 SD_CLK (out) "SDMMC0, SD card CLK, 22R resistor  included on CM3588, connect directly to  card slot pin", 361 GND "Ground(0V)", 362 GND "Ground(0V)", 363 HDMITX0_SCL_M0 (out) "HDMI2.1 TX Port0 DDC clock, 3.3V signal", 364 SDMMC0_D0 (io) "SDMMC0, SD card D0, connect directly to  card slot pin", 365 HDMITX0_SDA_M0 (io) "HDMI2.1 TX Port0 DDC data input and output, 3.3V signal", 366 SDMMC0_D1 (io) "SDMMC0, SD card D1, connect directly to  card slot pin", 367 HDMITX0_CEC_M0 (io) "HDMI2.1 TX Port0 CEC signal, 3.3V signal", 368 GND "Ground(0V)", 369 HDMI0_TX_ON_H (io) "HDMI2.1 TX Port0, HDMI mode configuration output signal, 3.3V  signal; Working in HDMI2.1 mode, it Outputs low level, otherwise  high level", 370 GPIO0_A4/SDMMC_DET_L (in) "SDMMC0, card insert detect input, low  active, 1.8V signal, connect directly to card  slot pin", 371 HDMITX1_SCL_M1 (out) "HDMI2.1 TX Port1 DDC clock, 3.3V signal", 372 HDMI_RX_SCL_M1 (out) "HDMI RX DDC clock, 3.3V signal", 373 HDMITX1_SDA_M1 (io) "HDMI2.1 TX Port1 DDC data input and output, 3.3V signal", 374 HDMI_RX_SDA_M1 (io) "HDMI RX DDC data input and output, 3.3V  signal", 375 HDMITX1_CEC_M2 (io) "HDMI2.1 TX Port1 CEC signal, 3.3V signal", 376 HDMI_RX_CEC (io) "HDMI RX CEC signal, 3.3V signal", 377 HDMI1_TX_ON_H (io) "HDMI2.1 TX Port1, HDMI mode configuration output signal, 3.3V  signal; Working in HDMI2.1 mode, it outputs low level, otherwise  high level", 378 HDMIIRX_HPDOUT_H (io) "HDMI RX HPD output, high active, 3.3V  signal", 379 GPIO3_D0 (io) "GPIO, 3.3V signal", 380 GND "Ground(0V)", 381 GPIO3_C7 (io) "GPIO, 3.3V signal", 382 GPIO3_B0 (io) "GPIO, 3.3V signal", 383 GND "Ground(0V)", 384 GPIO3_B1 (io) "GPIO, 3.3V signal", 385 GPIO3_D5 (io) "GPIO, 3.3V signal", 386 GPIO3_B2 (io) "GPIO, 3.3V signal", 387 GPIO3_A0 (io) "GPIO, 3.3V signal", 388 GPIO3_B3 (io) "GPIO, 3.3V signal", 389 GPIO3_A1 (io) "GPIO, 3.3V signal", 390 GPIO3_B4 (io) "GPIO, 3.3V signal", 391 GPIO3_A2 (io) "GPIO, 3.3V signal", 392 GPIO3_B5 (io) "GPIO, 3.3V signal", 393 GPIO3_A3 (io) "GPIO, 3.3V signal", 394 GPIO3_B6 (io) "GPIO, 3.3V signal", 395 GPIO3_A4 (io) "GPIO, 3.3V signal", 396 GND "Ground(0V)", 397 GPIO3_A5 (io) "GPIO, 3.3V signal", 398 GPIO3_B7 (io) "GPIO, 3.3V signal", 399 GPIO3_A6 (io) "GPIO, 3.3V signal", 400 GPIO3_A7 (io) "GPIO, 3.3V signal"

## CRCW040231K6FKED
designator R?, comment 31.6K
31.6 kΩ  Tolerance: 1.0%  Power: 63 mW 0402; Manufacturer_Name: Vishay; Manufacturer_Part_Number: CRCW040231K6FKED; Datasheet Link: http://www.vishay.com/docs/20035/dcrcwe3.pdf; Height: 0.4mm; Mouser Part Number: 71-CRCW0402-31.6K-E3; Mouser Price/Stock: https://www.mouser.co.uk/ProductDetail/Vishay-Dale/CRCW040231K6FKED?qs=TNtMkGKFKOwWly94NvOrvQ%3D%3D
footprint RESC1005X40N
pins: 1, 2

## CRCW040250K0FKED
designator R?, comment 50K
50 kΩ  Tolerance: 1.0%  Power: 63 mW  Package:0402; Manufacturer_Name: Vishay; Manufacturer_Part_Number: CRCW040250K0FKED; Datasheet Link: http://www.vishay.com/docs/20035/dcrcwe3.pdf; Height: 0.4mm; Mouser Part Number: 71-CRCW0402-50K-E3; Mouser Price/Stock: https://www.mouser.co.uk/ProductDetail/Vishay-Dale/CRCW040250K0FKED?qs=ZTJSYgkXUA0CX%252BZe0ESa5A%3D%3D
footprint RESC1005X40N
pins: 1, 2

## CRCW040254K9FKED
designator R?, comment 54.9K
54.9 kΩ  Tolerance: 1.0%  Power: 63 mW  PAckage:0402; Manufacturer_Name: Vishay; Manufacturer_Part_Number: CRCW040254K9FKED; Datasheet Link: http://www.vishay.com/docs/20035/dcrcwe3.pdf; Height: 0.4mm; Mouser Part Number: 71-CRCW0402-54.9K-E3; Mouser Price/Stock: https://www.mouser.co.uk/ProductDetail/Vishay-Dale/CRCW040254K9FKED?qs=hAuyw6LW%252BLi3%2FhCT%2FKiiLw%3D%3D; Arrow Part Number: CRCW040254K9FKED; Arrow Price/Stock: https://www.arrow.com/en/products/crcw040254k9fked/vishay
footprint RESC1005X40N
pins: 1, 2

## CSD18514Q5A
designator Q?
MOSFET N-Channel 40 V 89A (Tc) 74W (Tc) Surface Mount 8-VSONP (5x6); Manufacturer_Name: Texas Instruments; Datasheet Link: http://www.ti.com/lit/gpn/csd18514q5a; Height: 1.1mm; Manufacturer_Part_Number: CSD18514Q5A; Mouser Part Number: 595-CSD18514Q5A; Mouser Price/Stock: https://www.mouser.co.uk/ProductDetail/Texas-Instruments/CSD18514Q5A?qs=34RfhUjJmKfubXTJ%252BbkIEA%3D%3D; Arrow Part Number: CSD18514Q5A; Arrow Price/Stock: https://www.arrow.com/en/products/csd18514q5a/texas-instruments?region=nac
footprint CSD18514Q5A
pins: 1 S, 2 S_2, 3 S_3, 4 G, 5 D, 6 D_2, 7 D_3, 8 D_4, 9 D_5

## CSD18534Q5A
designator Q?
MOSFET N-Channel 60 V 13A (Ta), 50A (Tc) 3.1W (Ta), 77W (Tc) Surface Mount 8-VSONP (5x6); Manufacturer_Name: Texas Instruments; Datasheet Link: http://www.ti.com/lit/gpn/csd18534q5a; Manufacturer_Part_Number: CSD18534Q5A; Mouser Part Number: 595-CSD18534Q5A; Mouser Price/Stock: https://www.mouser.co.uk/ProductDetail/Texas-Instruments/CSD18534Q5A?qs=9Zb5cNRUa0ZPNHf4ZXtqIA%3D%3D; Arrow Part Number: CSD18534Q5A; Arrow Price/Stock: https://www.arrow.com/en/products/csd18534q5a/texas-instruments?utm_currency=USD&region=nac
footprint Q5A
pins: 1 S_1, 2 S_2, 3 S_3, 4 Gate, 5 D_1, 6 D_2, 7 D_3, 8 D_4

## DF40HC(3.0)-100DS-0.4V(51)
designator CON?, comment DF40HC  (value not drawn)
Stacking Board Connector, DF40 Series, Receptacle, 0.4 mm, 100, Surface Mount, G; Manufacturer_Name: Hirose; Manufacturer_Part_Number: DF40HC(3.0)-100DS-0.4V(51; Number of Positions: 100; Contact Resistance: 90mR; Contact Voltage Rating (AC): 30V; Current Rating: 300mA; Mated Stacking Heights: 3mm; Contact Pitch: 400um; Datasheet Link: https://componentsearchengine.com/Datasheets/1/DF40HC(3.0)-100DS-0.4V(51.pdf; Height: 3.05mm; Mouser Part Number: 798-DF40HC30100DS451; Mouser Price/Stock: https://www.mouser.co.uk/ProductDetail/Hirose-Connector/DF40HC3.0-100DS-0.4V51?qs=%252BAZVS4b%2FkgIV%252B3vHYy2dCA%3D%3D; Arrow Part Number: DF40HC(3.0)-100DS-0.4V(51; Arrow Price/Stock: https://www.arrow.com/en/products/df40hc-3.0-100ds-0.4v-51/hirose-electric; Supplier: Digikey; Supplier Part Number: 26-DF40HC(3.0)-100DS-0.4V(51)CT-ND; Manufacturer: Hirose; Manufacturer Part Number: DF40HC(3.0)-100DS-0.4V(51; RoHS: Yes; Category: Headers and Wire Housings; Stock: 5604; Pricing: 1=2.61, 10=2.219, 25=2.0796, 50=1.9804, 100=1.8858, 250=1.76764, 500=1.68326, 1000=1.6524 (USD); Mounting Technology: Surface Mount; Contact Plating: Gold; Contact Material: Nickel,Gold; Housing Color: Black; Min Operating Temperature: -35°C; Max Operating Temperature: 85°C; Package Quantity: 3000; Packaging: Tape and Reel; Number of Rows: 2; Connector Type: Receptacle; Series: DF40; Contact Voltage Rating (DC): 30V; Number of Contacts: 100; Orientation: Straight; Voltage Rating: 30V; Length: 22.6mm; Width: 3.38mm; ComponentLink1URL: https://datasheet.ciiva.com/13559/ed-df40-20140305-13559540.pdf?src-supplier=Mouser; ComponentLink1Description: https://datasheet.ciiva.com/13559/ed-df40-20140305-13559540.pdf?src-supplier=Mouser
footprint DF40HC30100DS04V51
pins: 1, 2, 3, 4, 5, 6, 7, 8, 9, 10, 11, 12, 13, 14, 15, 16, 17, 18, 19, 20, 21, 22, 23, 24, 25, 26, 27, 28, 29, 30, 31, 32, 33, 34, 35, 36, 37, 38, 39, 40, 41, 42, 43, 44, 45, 46, 47, 48, 49, 50, 51, 52, 53, 54, 55, 56, 57, 58, 59, 60, 61, 62, 63, 64, 65, 66, 67, 68, 69, 70, 71, 72, 73, 74, 75, 76, 77, 78, 79, 80, 81, 82, 83, 84, 85, 86, 87, 88, 89, 90, 91, 92, 93, 94, 95, 96, 97, 98, 99, 100

## ECS-250-8-37B2-RWY-TR
designator Y?, comment 25MHz/15PPM/8pF
Crystal 25MHz ±15ppm (Tol) ±15ppm (Stability) 8pF FUND 50Ohm 4-Pin Mini-CSMD T/R; Manufacturer: ECS International; MF: {'manufacturer': u'ECS Inc.'}; MP: ECS-250-8-37B2-RWY-TR; Package: None; Price: None; Value: *; Availability: Unavailable; Supplier: Digikey; Supplier Part Number: 50-ECS-250-8-37B2-RWY-TRCT-ND; Manufacturer Part Number: ECS-250-8-37B2-RWY-TR; RoHS: No; Category: Crystals; Stock: 26122; Pricing: 1=0.37, 10=0.321, 50=0.2914, 100=0.2794, 500=0.25326, 1000=0.24278 (USD); ComponentLink1URL: https://datasheet.octopart.com/ECS-250-8-37B2-RWY-TR-ECS-International-datasheet-163707945.pdf?src-supplier=Electro+Sonic; ComponentLink1Description: https://datasheet.octopart.com/ECS-250-8-37B2-RWY-TR-ECS-International-datasheet-163707945.pdf?src-supplier=Electro+Sonic
footprint XTAL_ECS-250-8-37B2-RWY-TR
pins: 1 IN/OUT, 2 GND (power), 3 OUT/IN, 4 GND (power)

## EEE-FPJ101UAR
designator C?, comment 100uF / 6.3V
100uF 6.3V 20% Cap Aluminum Lytic  SMD 0.36 Ohm 240mA 2000h 105C Automotive T/R; Manufacturer_Name: Panasonic; Manufacturer_Part_Number: EEE-FPJ101UAR; Material: Aluminium; ESR (Equivalent Series Resistance): 360mR; Life (Hours): 2000Hour; Leakage Current: 6.3uA; Datasheet Link: http://industrial.panasonic.com/cdbs/www-data/pdf/RDE0000/ABA0000C1184.pdf; Height: 6.5mm; Mouser Part Number: 667-EEE-FPJ101UAR; Mouser Price/Stock: https://www.mouser.co.uk/ProductDetail/Panasonic/EEE-FPJ101UAR?qs=d1CqaRUMZD%252BxJy4M83vA9g%3D%3D; Arrow Part Number: EEE-FPJ101UAR; Arrow Price/Stock: https://www.arrow.com/en/products/eee-fpj101uar/panasonic?utm_currency=USD&region=europe; Supplier: Digikey; Supplier Part Number: PCE4514CT-ND; Manufacturer: Panasonic; Manufacturer Part Number: EEE-FPJ101UAR; RoHS: Yes; Category: Aluminum Electrolytic Capacitors; Stock: 28785; Pricing: 1=0.56, 10=0.35, 50=0.2602, 100=0.2317, 500=0.18256 (USD); Mounting Technology: Surface Mount,PCB; Case/Package: Radial; Dielectric Material: Aluminium; Min Operating Temperature: -55°C; Max Operating Temperature: 105°C; Value: 100uF; Packaging: Tape and Reel; Voltage Rating (DC): 6.3V; Package Quantity: 1; Termination: SMD/SMT; Series: FP; Ripple Current: 240mA; Tolerance: 20%; Voltage Rating: 6.3V; Ripple Current (AC): 240mA; Voltage: 6.3V; Construction: Cylindrical; Diameter: 5mm; Length: 6.1mm; Lead Pitch: 1.5mm; Height - Seated (Max): 0.228inch; Radiation Hardening: No; Lead Free: Lead Free; RoHS Compliant: Yes; Reach SVHC Compliant: Unknown; ComponentLink1URL: https://datasheet.ciiva.com/11777/0900766b80df09a1-11777260.pdf?src-supplier=Rs; ComponentLink1Description: https://datasheet.ciiva.com/11777/0900766b80df09a1-11777260.pdf?src-supplier=Rs; ComponentLink2URL: https://datasheet.ciiva.com/25614/0900766b80df09a1-25614042.pdf?src-supplier=Rs; ComponentLink2Description: https://datasheet.ciiva.com/25614/0900766b80df09a1-25614042.pdf?src-supplier=Rs; ComponentLink3URL: https://datasheet.ciiva.com/2985/aba0000ce114-2985560.pdf?src-supplier=Avnet; ComponentLink3Description: https://datasheet.ciiva.com/2985/aba0000ce114-2985560.pdf?src-supplier=Avnet; ComponentLink4URL: https://datasheet.ciiva.com/30259/aba0000ce114-30259452.pdf?src-supplier=Onlinecomponents.com; ComponentLink4Description: https://datasheet.ciiva.com/30259/aba0000ce114-30259452.pdf?src-supplier=Onlinecomponents.com; ComponentLink5URL: https://datasheet.ciiva.com/14597/70068195-14597061.pdf?src-supplier=Allied+Electronics; ComponentLink5Description: https://datasheet.ciiva.com/14597/70068195-14597061.pdf?src-supplier=Allied+Electronics; ComponentLink6URL: https://datasheet.ciiva.com/14606/70068195-14606383.pdf?src-supplier=Allied+Electronics; ComponentLink6Description: https://datasheet.ciiva.com/14606/70068195-14606383.pdf?src-supplier=Allied+Electronics; ComponentLink7URL: https://datasheet.ciiva.com/48523/fp-eng-tds-48523719.pdf?src-supplier=Distrelec; ComponentLink7Description: https://datasheet.ciiva.com/48523/fp-eng-tds-48523719.pdf?src-supplier=Distrelec; ComponentLink8URL: https://datasheet.ciiva.com/46391/370232-46391160.pdf?src-supplier=Element14; ComponentLink8Description: https://datasheet.ciiva.com/46391/370232-46391160.pdf?src-supplier=Element14; ComponentLink9URL: https://datasheet.ciiva.com/46398/370232-46398005.pdf?src-supplier=Element14; ComponentLink9Description: https://datasheet.ciiva.com/46398/370232-46398005.pdf?src-supplier=Element14
footprint EEE0GA101SR
pins: 1 +, 2 -